# Altium schematic symbol library SL_Sensors.SchLib: 5 symbols
Pins are listed as number, name and electrical type; pins without a type are passive.

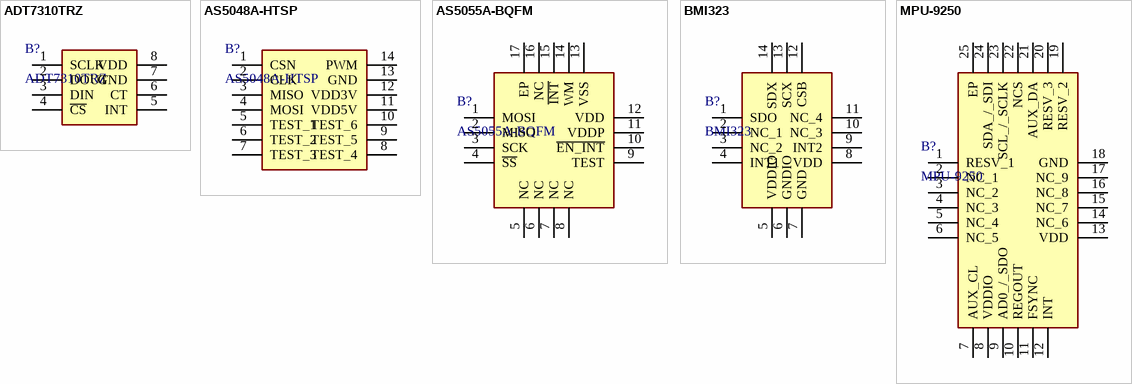
[diagram p0: symbols ADT7310TRZ to MPU-9250]

## ADT7310TRZ
designator B?
Integrated Circuit; Manufacturer_Name: Analog Devices; Datasheet Link: https://datasheet.datasheetarchive.com/originals/distributors/SFDatasheet-7/sf-000149831.pdf; Height: 1.75mm; Manufacturer_Part_Number: ADT7310TRZ; Mouser Part Number: 584-ADT7310TRZ; Mouser Price/Stock: https://www.mouser.co.uk/ProductDetail/Analog-Devices/ADT7310TRZ?qs=WIvQP4zGaniI1ujqLE%2FSRg%3D%3D; Arrow Part Number: ADT7310TRZ; Arrow Price/Stock: https://www.arrow.com/en/products/adt7310trz/analog-devices
footprint SOIC127P600X175-8N
pins: 1 SCLK, 2 DOUT, 3 DIN, 4 ~{CS}, 5 INT, 6 CT, 7 GND, 8 VDD

## AS5048A-HTSP
designator B?
Integrated Circuit; Manufacturer_Name: ams OSRAM; Datasheet Link: http://uk.rs-online.com/web/p/products/2018308; Height: 1.2mm; Manufacturer_Part_Number: AS5048A-HTSP; Mouser Part Number: 985-AS5048A-HTSP; Mouser Price/Stock: https://www.mouser.co.uk/ProductDetail/ams-OSRAM/AS5048A-HTSP?qs=eSfX1CQlHqoKT5%252BIMCXgRQ%3D%3D; Arrow Part Number: AS5048A-HTSP; Arrow Price/Stock: https://www.arrow.com/en/products/as5048a-htsp/ams-osram.html?utm_currency=USD&region=nac
footprint SOP65P640X120-14N
pins: 1 CSN, 2 CLK, 3 MISO, 4 MOSI, 5 TEST_1, 6 TEST_2, 7 TEST_3, 8 TEST_4, 9 TEST_5, 10 TEST_6, 11 VDD5V, 12 VDD3V, 13 GND, 14 PWM

## AS5055A-BQFM
designator B?
Integrated Circuit; Manufacturer_Name: ams OSRAM; Datasheet Link: https://ams.com/documents/20143/36005/AS5055A_DS000304_2-00.pdf; Height: 1mm; Manufacturer_Part_Number: AS5055A-BQFM; Mouser Part Number: 985-AS5055A-BQFM; Mouser Price/Stock: https://www.mouser.co.uk/ProductDetail/ams/AS5055A-BQFM?qs=4zpkHad2bQAumCfQUINmhA%3D%3D; Arrow Part Number: AS5055A-BQFM; Arrow Price/Stock: https://www.arrow.com/en/products/as5055a-bqfm/ams-ag?region=nac
footprint QFN65P400X400X100-17N-D
pins: 1 MOSI, 2 MISO, 3 SCK, 4 ~{SS}, 5 NC, 6 NC, 7 NC, 8 NC, 9 TEST, 10 ~{EN_INT}, 11 VDDP, 12 VDD, 13 VSS, 14 WM, 15 ~{INT}, 16 NC, 17 EP

## BMI323
designator B?
Integrated Circuit; Manufacturer_Name: BOSCH; Datasheet Link: https://www.bosch-sensortec.com/media/boschsensortec/downloads/datasheets/bst-bmi323-ds000.pdf; Height: 0.87mm; Manufacturer_Part_Number: BMI323; Mouser Part Number: 262-BMI323; Mouser Price/Stock: https://www.mouser.co.uk/ProductDetail/Bosch-Sensortec/BMI323?qs=By6Nw2ByBD3%2FE1v0UqNQPQ%3D%3D; Arrow Part Number: BMI323; Arrow Price/Stock: https://www.arrow.com/en/products/bmi323/bosch-sensortec?utm_currency=USD&region=nac
footprint BMI323
pins: 1 SDO, 2 NC_1, 3 NC_2, 4 INT1, 5 VDDIO, 6 GNDIO, 7 GND, 8 VDD, 9 INT2, 10 NC_3, 11 NC_4, 12 CSB, 13 SCX, 14 SDX

## MPU-9250
designator B?
Integrated Circuit; Manufacturer_Name: TDK; Datasheet Link: https://media.digikey.com/pdf/Data%20Sheets/TDK%20PDFs/MPU-9250_Rev_1.1.pdf; Height: 1.05mm; Manufacturer_Part_Number: MPU-9250; Mouser Part Number: 410-MPU-9250; Mouser Price/Stock: https://www.mouser.co.uk/ProductDetail/TDK-InvenSense/MPU-9250?qs=u4fy%2FsgLU9OhGjFkQSZssA%3D%3D
footprint QFN40P300X300X105-25N-D
pins: 1 RESV_1, 2 NC_1, 3 NC_2, 4 NC_3, 5 NC_4, 6 NC_5, 7 AUX_CL, 8 VDDIO, 9 AD0_/_SDO, 10 REGOUT, 11 FSYNC, 12 INT, 13 VDD, 14 NC_6, 15 NC_7, 16 NC_8, 17 NC_9, 18 GND, 19 RESV_2, 20 RESV_3, 21 AUX_DA, 22 NCS, 23 SCL_/_SCLK, 24 SDA_/_SDI, 25 EP